# Altium footprint library SW-SMD_L3.9-W3.0-P4.45.PcbLib: 1 footprints
Each footprint in its own frame and in the unit in brackets; x right, y up, seen from the top. Pads: shape width x height; smd on the part's side, far side on the other; paste and mask are expansions set on the pad; w line width, h text height; cw(c..) or ccw(c..) is an arc to the next point about the centre after c.
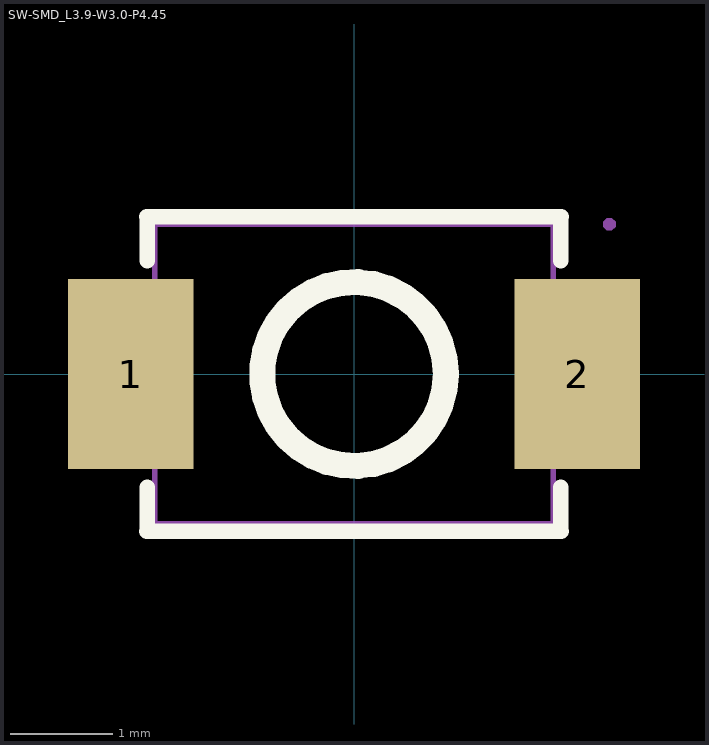
[diagram p0: the footprint, top view; thin cyan lines are the x and y axes]

## SW-SMD_L3.9-W3.0-P4.45 [mm]
pads (2):
  rect 1.23x1.86 smd: 1(-2.185,0) 2(2.185,0)
Top Overlay:
  circle w0.254: c0,0 r0.9
  lines w0.152: -2.026,-1.11 -2.026,-1.541 2.026,-1.541 2.026,-1.11 ; -2.026,1.11 -2.026,1.541 2.026,1.541 2.026,1.11
Mechanical 6:
  lines w0.051: -1.95,-1.465 -1.95,1.465 1.95,1.465 1.95,-1.465 -1.95,-1.465
Mechanical 8:
  region: 2.56,1.465 2.56,1.44 2.525,1.405 2.475,1.405 2.44,1.44 2.44,1.465 2.44,1.49 2.475,1.525 2.525,1.525 2.56,1.49 2.56,1.465
Mechanical 9:
  region: -2.5,0.65 -2.5,-0.65 -1.6,-0.65 -1.6,0.65
  region: 2.5,0.65 2.5,-0.65 1.6,-0.65 1.6,0.65